# Altium schematic symbol library TS5A3166.SchLib: 1 symbol
Pins are listed as number, name and electrical type; pins without a type are passive.

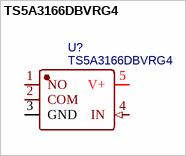
[diagram p0: symbol TS5A3166DBVRG4]

## TS5A3166DBVRG4
designator U?
0.9Ω 导通状态电阻、5V、1:1 (SPST)、单通道模拟开关（高电平有效）; Manufacturer: TI(德州仪器); Contributor: LCSC; Supplier: LCSC; Supplier Part: C2871829; Manufacturer Part: TS5A3166DBVRG4; JLCPCB Part Class: Extended Part; spicePre: U; spiceSymbolName: TS5A3166DBVRG4
footprint SOT-23-5_L2.9-W1.6-P0.95-LS2.8-BL
pins: 1 NO, 2 COM, 3 GND (power), 4 IN (in), 5 V+ (power)